# EAGLE library part SM04B-SRSS-TB_LF__SN__LCSC (library lcsc_parts)
Description: Connector Header 4 position 1mm Pitch 1A Surface Mount, Right Angle -25℃~+85℃ Manufacturer: JST MPN: SM04B-SRSS-TB(LF)(SN) LCSC Part: C160404 Category: Headers, Male Pins Datasheet: https://datasheet.lcsc.com/datasheet/pdf/40c649e22fa9bda892cfec952005fd51.pdf?productCode=C160404
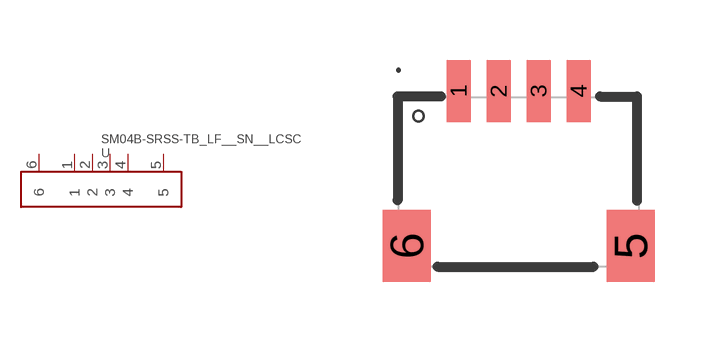
[diagram p4: symbol with the pads of CONN-SMD_4P-P1.00_SM04B-SRSS-TB-LF-SN; footprint CONN-SMD_4P-P1.00_SM04B-SRSS-TB-LF-SN]

Designator prefix U

## SM04B-SRSS-TB_LF__SN__LCSC (CATEGORY: Headers, Male Pins; COLOR: White; CONTACT_MATERIAL: Copper alloy; CONTACT_PLATING: Tin; CURRENT_RATING: 1A; DATASHEET: https://datasheet.lcsc.com/datasheet/pdf/40c649e22fa9bda892cfec952005fd51.pdf?productCode=C160404; DESCRIPTION: Connector Header 4 position 1mm Pitch 1A Surface Mount, Right Angle -25℃~+85℃; FLAME_RETARDANT_RATING: UL94V-0; LCSC_PART: C160404; LCSC_STOCK: 0; MANUFACTURER: JST; MOUNTING_TYPE: Surface Mount, Right Angle; MPN: SM04B-SRSS-TB(LF)(SN); NUMBER_OF_PINS: 4P; NUMBER_OF_PINS_PER_ROW: 4; NUMBER_OF_ROWS: 1; OPERATING_TEMPERATURE: -25℃~+85℃; PARTNO: SM04B-SRSS-TB(LF)(SN); PIN_STRUCTURE: 1x4P; PITCH: 1mm; PLASTIC_MATERIAL: PA; PRICING_1000: $0.2704/unit @ 1000; PRICING_50: $0.347/unit @ 50; REFERENCE_SERIES: SH; SUPPLEMENTARY_FEATURES: Auxiliary Solder Pin; VOLTAGE_RATING_MAX: 50V; X_LENGTH_OF_BOTTOM_EDGE_ON_BOARD_SPACING_LINE: 6mm)  [CONN-SMD_4P-P1.00_SM04B-SRSS-TB-LF-SN]
1  1
2  2
3  3
4  4
5  5
6  6

## Footprint CONN-SMD_4P-P1.00_SM04B-SRSS-TB-LF-SN (pad centres in mm)
smd 0.6 x 1.55: 1 -1.5,1.94; 2 -0.5,1.94; 3 0.5,1.94; 4 1.5,1.94
smd 1.2 x 1.8: 5 2.8,-1.94; 6 -2.8,-1.94